# Altium footprint library Copy of Hot-Swap_Solutions_PcbLib.PcbLib: 2 footprints
Each footprint in its own frame and in the unit in brackets; x right, y up, seen from the top. Pads: shape width x height; smd on the part's side, far side on the other; paste and mask are expansions set on the pad; w line width, h text height; cw(c..) or ccw(c..) is an arc to the next point about the centre after c.
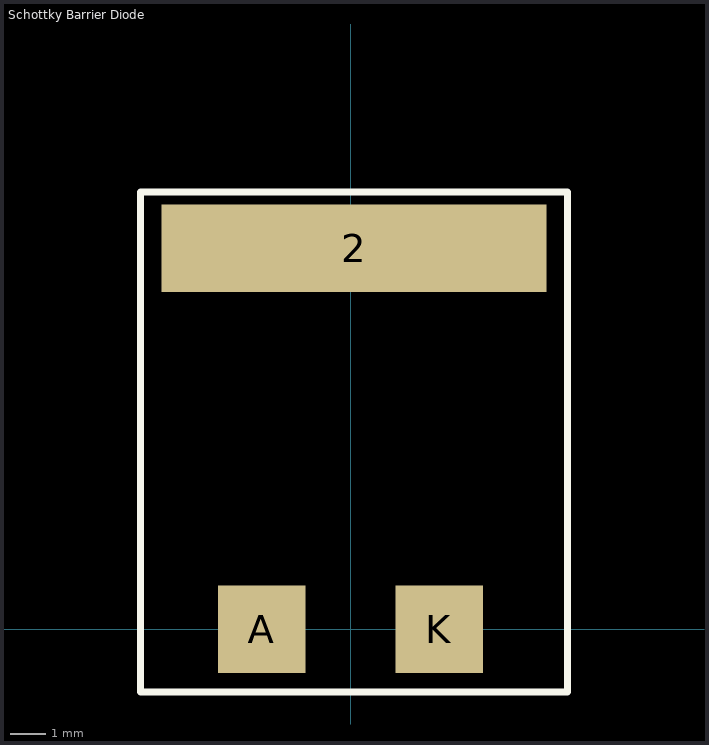
[diagram p0: the footprints below, top view; thin cyan lines are the x and y axes]

## PCBComponent_1 [mm]

## Schottky Barrier Diode [mm]
pads (3):
  rect 11x2.5 all layers, no hole: 2(0.1,10.9)
  rect 2.5x2.5 smd: A(-2.54,0) K(2.54,0)
Top Overlay:
  lines w0.2: -6,-1.8 -6,12.5 6.2,12.5 6.2,-1.8 -6,-1.8